# Altium schematic symbol library CD's_LIB_2018.SCHLIB: 105 symbols
Pins are listed as number, name and electrical type; pins without a type are passive.

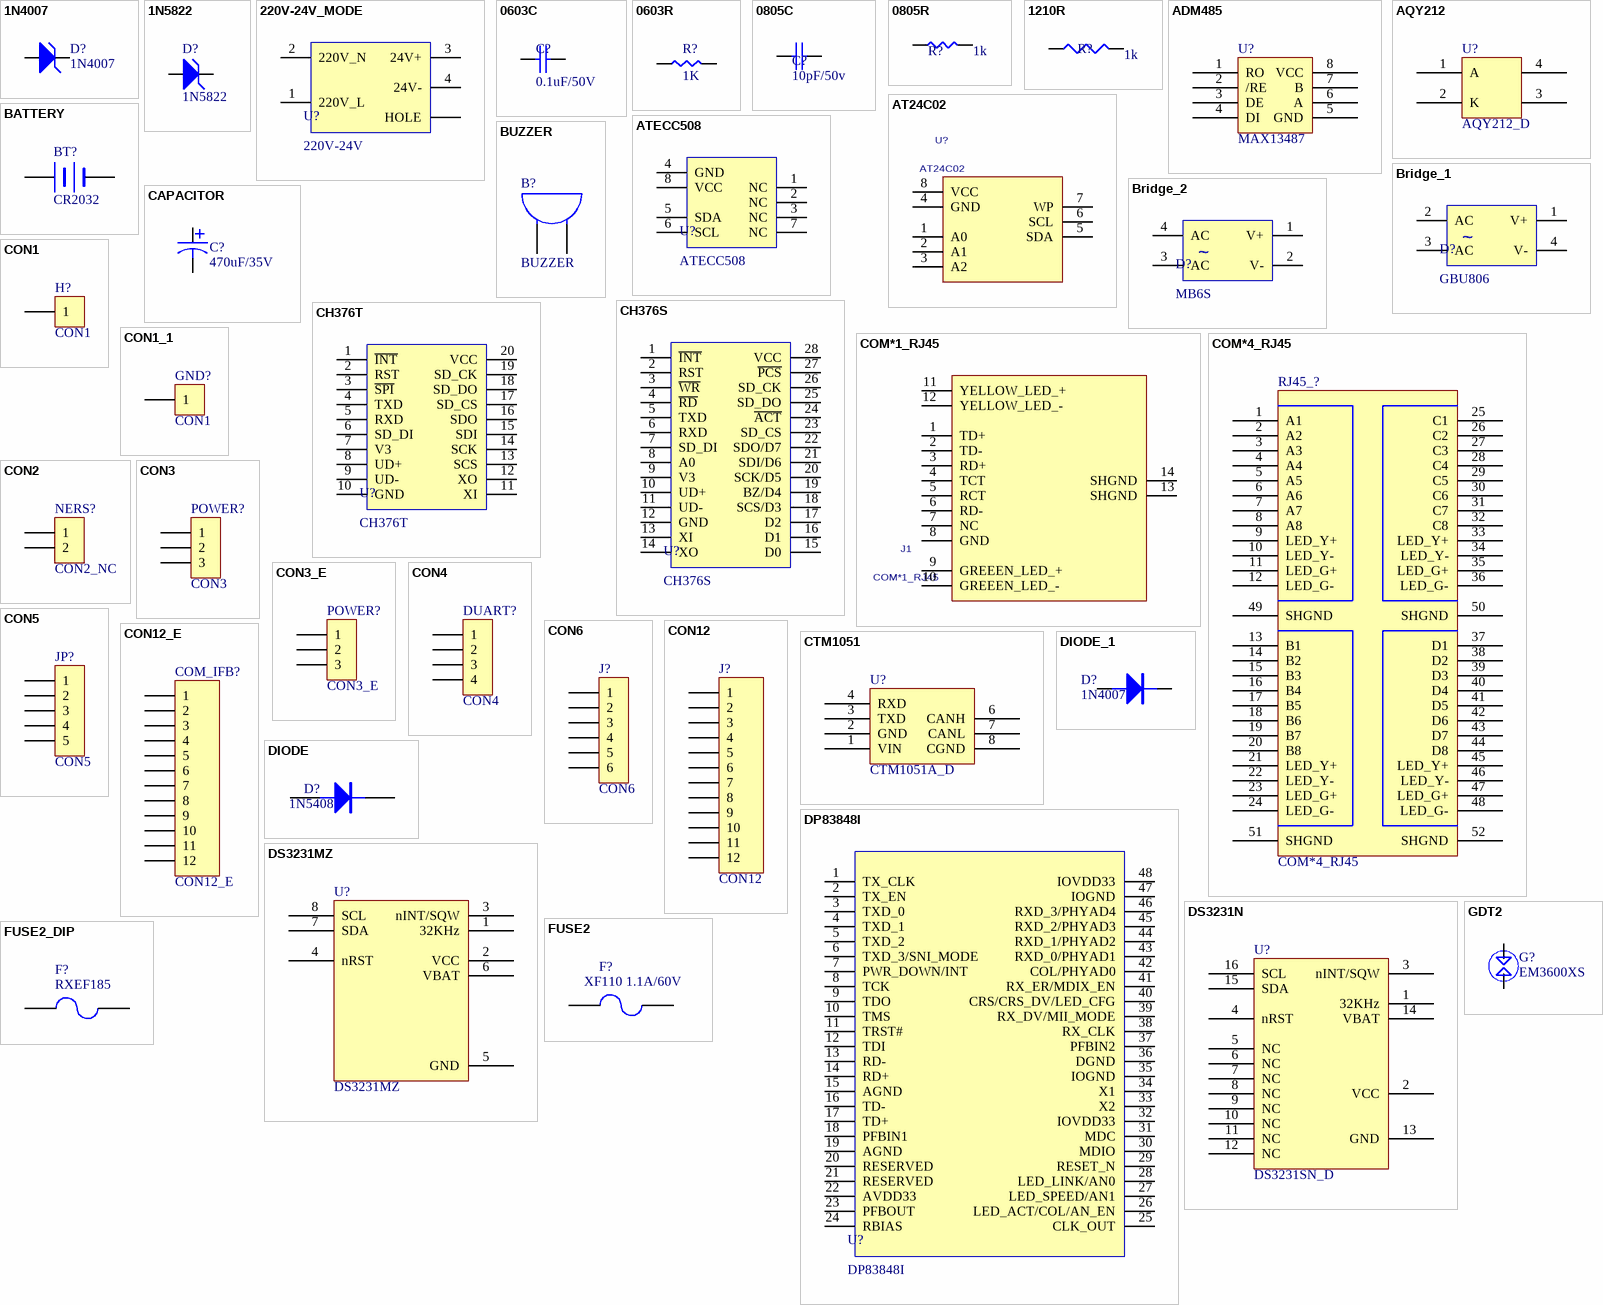
[diagram p0: symbols 1N4007 to GDT2]

## 1N4007
designator D?
Zener Diode
simulation model 1N4007 (SUBCKT)
footprint D1812
pins: 1 A, 2 K
1 alternate drawing of the same symbol

## 1N5822
designator D?
Zener Diode
simulation model 1N5822 (SUBCKT)
footprint D1812
pins: 1 A, 2 K
1 alternate drawing of the same symbol

## 220V-24V_MODE
designator U?, comment 220V-24V
220V转24V模块
footprint 220V-24V_MODE (220V转24V模块)
pins: 0 HOLE, 1 220V_L, 2 220V_N, 3 24V+, 4 24V-

## 0603C
designator C?, comment 0.1uF/50V
footprint 0603C
pins: 1, 2

## 0603R
designator R?, comment 1K
footprint 0603R
pins: 1, 2

## 0805C
designator C?, comment 10pF/50v
Capacitor 0805
footprint 0805C
pins: 1, 2

## 0805R
designator R?, comment 1k
footprint 0805R
pins: 1, 2

## 1210R
designator R?, comment 1k
footprint 1210R
pins: 1, 2

## ADM485
designator U?, comment MAX13487
footprint SO-8
pins: 1 RO, 2 /RE, 3 DE, 4 DI, 5 GND, 6 A, 7 B, 8 VCC

## AQY212
designator U?, comment AQY212_D
footprint SOP4
pins: 1 A, 2 K, 3, 4

## AT24C02
designator U?
PCB DECAL: SOP8
footprint SO-8
pins: 1 A0, 2 A1, 3 A2, 4 GND, 5 SDA, 6 SCL, 7 WP, 8 VCC

## ATECC508
designator U?
AT加密芯片
footprint SO-8
pins: 1 NC, 2 NC, 3 NC, 4 GND, 5 SDA, 6 SCL, 7 NC, 8 VCC

## BATTERY
designator BT?, comment CR2032
Battery
footprint BAT2
footprint BATERY
pins: 1 +, 2 -

## Bridge_1
designator D?, comment GBU806
整流桥-8A600V
footprint GBU8XX (整流桥)
pins: 1 V+, 2 AC, 3 AC, 4 V-
text: ~

## Bridge_2
designator D?, comment MB6S
整流桥
footprint MBXS (整流桥)
pins: 1 V+, 2 V-, 3 AC, 4 AC
text: ~

## BUZZER
designator B?
footprint Buzzer - small (小一号蜂鸣器)
footprint BUZZER
pins: 1 A, 2 B

## CAPACITOR
designator C?, comment 470uF/35V
Capacitor
footprint CAP2
pins: 1, 2

## CH376S
designator U?
USB HOST
footprint SOP-28
pins: 1 ~{INT}, 2 RST, 3 ~{WR}, 4 ~{RD}, 5 TXD, 6 RXD, 7 SD_DI, 8 A0, 9 V3, 10 UD+, 11 UD-, 12 GND, 13 XI, 14 XO, 15 D0, 16 D1, 17 D2, 18 SCS/D3, 19 BZ/D4, 20 SCK/D5, 21 SDI/D6, 22 SDO/D7, 23 SD_CS, 24 ~{ACT}, 25 SD_DO, 26 SD_CK, 27 ~{PCS}, 28 VCC

## CH376T
designator U?
USB HOST
footprint TSSOP-20
pins: 1 ~{INT}, 2 RST, 3 ~{SPI}, 4 TXD, 5 RXD, 6 SD_DI, 7 V3, 8 UD+, 9 UD-, 10 GND, 11 XI, 12 XO, 13 SCS, 14 SCK, 15 SDI, 16 SDO, 17 SD_CS, 18 SD_DO, 19 SD_CK, 20 VCC

## COM*1_RJ45
designator J1
单网口; PCB DECAL: RJ45
footprint RJ45LED
pins: 1 TD+, 2 TD-, 3 RD+, 4 TCT, 5 RCT, 6 RD-, 7 NC, 8 GND, 9 GREEEN_LED_+, 10 GREEEN_LED_-, 11 YELLOW_LED_+, 12 YELLOW_LED_-, 13 SHGND, 14 SHGND

## COM*4_RJ45
designator RJ45_?
四网口
footprint RJ45_4
pins: 1 A1, 2 A2, 3 A3, 4 A4, 5 A5, 6 A6, 7 A7, 8 A8, 9 LED_Y+, 10 LED_Y-, 11 LED_G+, 12 LED_G-, 13 B1, 14 B2, 15 B3, 16 B4, 17 B5, 18 B6, 19 B7, 20 B8, 21 LED_Y+, 22 LED_Y-, 23 LED_G+, 24 LED_G-, 25 C1, 26 C2, 27 C3, 28 C4, 29 C5, 30 C6, 31 C7, 32 C8, 33 LED_Y+, 34 LED_Y-, 35 LED_G+, 36 LED_G-, 37 D1, 38 D2, 39 D3, 40 D4, 41 D5, 42 D6, 43 D7, 44 D8, 45 LED_Y+, 46 LED_Y-, 47 LED_G+, 48 LED_G-, 49 SHGND, 50 SHGND, 51 SHGND, 52 SHGND

## CON1
designator H?
Connector
footprint HOLE-3.2 (孔径3.2mm)
footprint HOLE-3.5 (孔径3.5mm)
footprint MARK
pins: 1

## CON1_1
designator GND?, comment CON1
Connector
footprint TP
pins: 1

## CON2
designator NERS?, comment CON2_NC
Connector
footprint SIP2
pins: 1, 2

## CON3
designator POWER?
3P_5.08
footprint HEAD508_3
pins: 1, 2, 3

## CON3_E
designator POWER?
3P_5.08_带锁
footprint HEAD508_3E
pins: 1, 2, 3

## CON4
designator DUART?
Connector
footprint SIP4
pins: 1, 2, 3, 4

## CON5
designator JP?
Connector
footprint SIP5
pins: 1, 2, 3, 4, 5

## CON6
designator J?
Connector
footprint HEAD508_6
pins: 1, 2, 3, 4, 5, 6

## CON12
designator J?
12P_5.08
footprint HEAD508_12
pins: 1, 2, 3, 4, 5, 6, 7, 8, 9, 10, 11, 12

## CON12_E
designator COM_IFB?
12P_5.08_带锁
footprint HEAD508_12E
pins: 1, 2, 3, 4, 5, 6, 7, 8, 9, 10, 11, 12

## CTM1051
designator U?, comment CTM1051A_D
footprint RSM232
pins: 1 VIN, 2 GND, 3 TXD, 4 RXD, 6 CANH, 7 CANL, 8 CGND

## DIODE
designator D?, comment 1N5408
Diode
footprint D1200
pins: 1 A, 2 K

## DIODE_1
designator D?, comment 1N4007
Diode
footprint D1812
pins: 1 A, 2 K

## DP83848I
designator U?
PHY芯片/i-工业级
footprint TQFP48
pins: 1 TX_CLK, 2 TX_EN, 3 TXD_0, 4 TXD_1, 5 TXD_2, 6 TXD_3/SNI_MODE, 7 PWR_DOWN/INT, 8 TCK, 9 TDO, 10 TMS, 11 TRST#, 12 TDI, 13 RD-, 14 RD+, 15 AGND, 16 TD-, 17 TD+, 18 PFBIN1, 19 AGND, 20 RESERVED, 21 RESERVED, 22 AVDD33, 23 PFBOUT, 24 RBIAS, 25 CLK_OUT, 26 LED_ACT/COL/AN_EN, 27 LED_SPEED/AN1, 28 LED_LINK/AN0, 29 RESET_N, 30 MDIO, 31 MDC, 32 IOVDD33, 33 X2, 34 X1, 35 IOGND, 36 DGND, 37 PFBIN2, 38 RX_CLK, 39 RX_DV/MII_MODE, 40 CRS/CRS_DV/LED_CFG, 41 RX_ER/MDIX_EN, 42 COL/PHYAD0, 43 RXD_0/PHYAD1, 44 RXD_1/PHYAD2, 45 RXD_2/PHYAD3, 46 RXD_3/PHYAD4, 47 IOGND, 48 IOVDD33

## DS3231MZ
designator U?
footprint SO-8
pins: 1 32KHz, 2 VCC, 3 nINT/SQW, 4 nRST, 5 GND, 6 VBAT, 7 SDA, 8 SCL

## DS3231N
designator U?, comment DS3231SN_D
footprint SOL-16
pins: 1 32KHz, 2 VCC, 3 nINT/SQW, 4 nRST, 5 NC, 6 NC, 7 NC, 8 NC, 9 NC, 10 NC, 11 NC, 12 NC, 13 GND, 14 VBAT, 15 SDA, 16 SCL

## FUSE2
designator F?, comment XF110 1.1A/60V
Fuse
footprint FUSE1
pins: 1, 2

## FUSE2_DIP
designator F?, comment RXEF185
Fuse
footprint RAD075-100
pins: 1, 2

## GDT2
designator G?, comment EM3600XS
footprint GDT2
pins: 1, 2

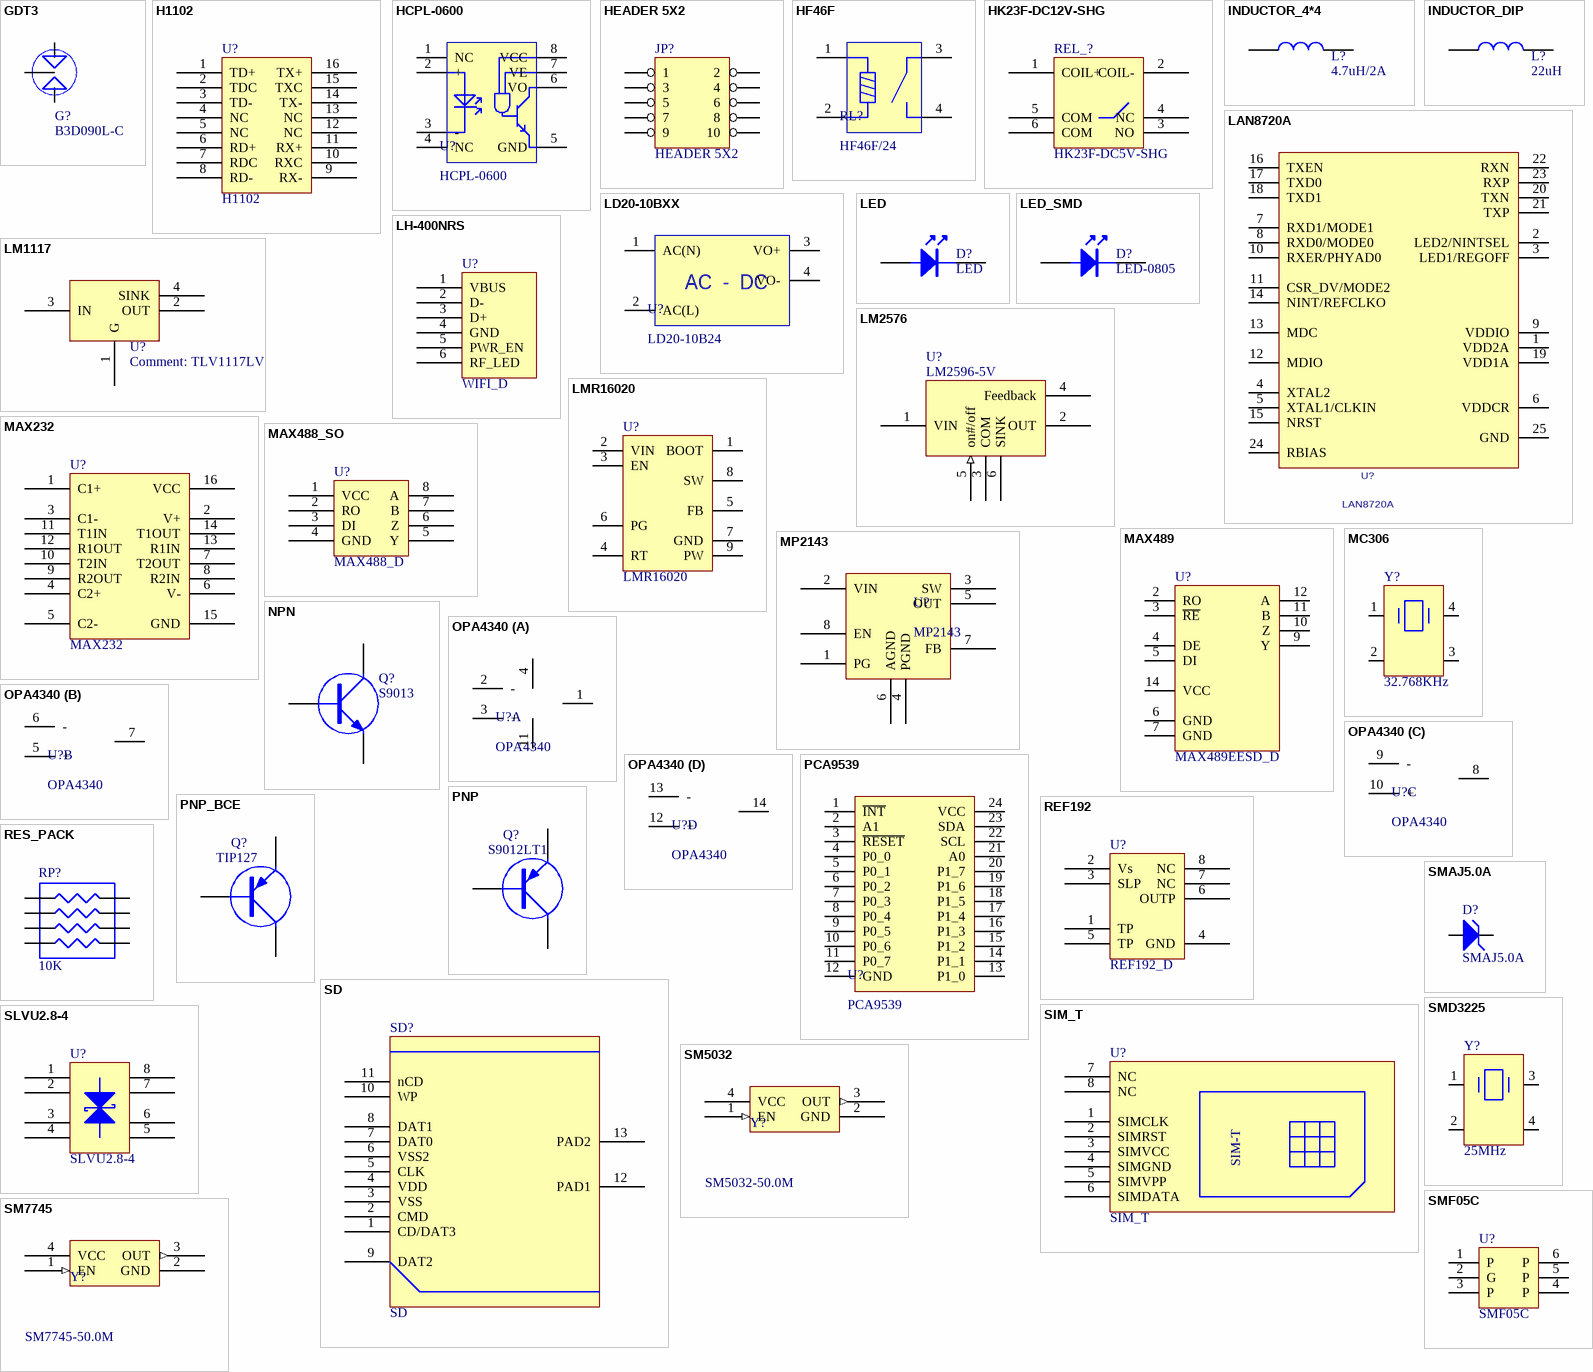
[diagram p1: symbols GDT3 to SMF05C]

## GDT3
designator G?, comment B3D090L-C
footprint GDT3
pins: 1, 2, 3

## H1102
designator U?
网络变压器
footprint H1102
pins: 1 TD+, 2 TDC, 3 TD-, 4 NC, 5 NC, 6 RD+, 7 RDC, 8 RD-, 9 RX-, 10 RXC, 11 RX+, 12 NC, 13 NC, 14 TX-, 15 TXC, 16 TX+

## HCPL-0600
designator U?
高速光耦
footprint SO-8
pins: 1 NC, 2 +, 3 -, 4 NC, 5 GND, 6 VO, 7 VE, 8 VCC

## HEADER 5X2
designator JP?
footprint IDC10_NB
pins: 1, 2, 3, 4, 5, 6, 7, 8, 9, 10

## HF46F
designator RL?, comment HF46F/24
继电器
footprint HF46F (薄继电器)
pins: 1 IN, 2 IN, 3 OUT, 4 OUT

## HK23F-DC12V-SHG
designator REL_?, comment HK23F-DC5V-SHG
footprint R_HK23F
pins: 1 COIL+, 2 COIL-, 3 NO, 4 NC, 5 COM, 6 COM

## INDUCTOR_4*4
designator L?, comment 4.7uH/2A
4*4小电感
footprint L4*4
pins: 1, 2

## INDUCTOR_DIP
designator L?, comment 22uH
直插电感
footprint L2AT
pins: 1, 2

## LAN8720A
designator U?
PCB DECAL: QFN24
footprint QFN24
pins: 1 VDD2A, 2 LED2/NINTSEL, 3 LED1/REGOFF, 4 XTAL2, 5 XTAL1/CLKIN, 6 VDDCR, 7 RXD1/MODE1, 8 RXD0/MODE0, 9 VDDIO, 10 RXER/PHYAD0, 11 CSR_DV/MODE2, 12 MDIO, 13 MDC, 14 NINT/REFCLKO, 15 NRST, 16 TXEN, 17 TXD0, 18 TXD1, 19 VDD1A, 20 TXN, 21 TXP, 22 RXN, 23 RXP, 24 RBIAS, 25 GND

## LD20-10BXX
designator U?, comment LD20-10B24
AC-DC模块
footprint LD20-10BXX (AC-DC模块)
pins: 1 AC(N), 2 AC(L), 3 VO+, 4 VO-
text: AC  -  DC

## LED
designator D?
footprint LED
pins: A 1, K 2

## LED_SMD
designator D?, comment LED-0805
贴片LED
footprint 0805LED
footprint 0603LED (贴片LED)
pins: 1 -, 2 +

## LH-400NRS
designator U?, comment WIFI_D
footprint MODWIFI
pins: 1 VBUS, 2 D-, 3 D+, 4 GND, 5 PWR_EN, 6 RF_LED

## LM1117
designator U?, comment TLV1117LV33DCYR
footprint SOT-233
pins: 1 G, 2 OUT, 3 IN, 4 SINK

## LM2576
designator U?, comment LM2596-5V
footprint TO220-5
pins: 1 VIN (power), 2 OUT, 3 COM, 4 Feedback, 5 on#/off (in), 6 SINK

## LMR16020
designator U?
footprint SO-G8
pins: 1 BOOT, 2 VIN, 3 EN, 4 RT, 5 FB, 6 PG, 7 GND, 8 SW, 9 PW

## MAX232
designator U?
footprint SO-16
pins: 1 C1+, 2 V+, 3 C1-, 4 C2+, 5 C2-, 6 V-, 7 T2OUT, 8 R2IN, 9 R2OUT, 10 T2IN, 11 T1IN, 12 R1OUT, 13 R1IN, 14 T1OUT, 15 GND, 16 VCC

## MAX488_SO
designator U?, comment MAX488_D
footprint SO-8
pins: 1 VCC, 2 RO, 3 DI, 4 GND, 5 Y, 6 Z, 7 B, 8 A

## MAX489
designator U?, comment MAX489EESD_D
footprint SO-14
pins: 2 RO, 3 ~{RE}, 4 DE, 5 DI, 6 GND, 7 GND, 9 Y, 10 Z, 11 B, 12 A, 14 VCC

## MC306
designator Y?, comment 32.768KHz
footprint MC306
pins: 1, 2, 3, 4

## MP2143
designator U?
小电压电源芯片
footprint MP2143 (TSOT23-8)
pins: 1 PG, 2 VIN, 3 SW, 4 PGND, 5 OUT, 6 AGND, 7 FB, 8 EN

## NPN
designator Q?, comment S9013
NPN Transistor
footprint TO-92A
pins: B, C, E

## OPA4340
designator U?
4运放
footprint SO-14
part A pins: 1 OUT_A, 2 -, 3 +, 4 VCC, 11 GND
part B pins: 5 +, 6 -, 7 OUT_B
part C pins: 8 OUT_C, 9 -, 10 +
part D pins: 12 +, 13 -, 14 OUT_D

## PCA9539
designator U?
扩展芯片
footprint TSSOP-16L
pins: 1 ~{INT}, 2 A1, 3 ~{RESET}, 4 P0_0, 5 P0_1, 6 P0_2, 7 P0_3, 8 P0_4, 9 P0_5, 10 P0_6, 11 P0_7, 12 GND, 13 P1_0, 14 P1_1, 15 P1_2, 16 P1_3, 17 P1_4, 18 P1_5, 19 P1_6, 20 P1_7, 21 A0, 22 SCL, 23 SDA, 24 VCC

## PNP
designator Q?, comment S9012LT1
PNP Transistor
footprint SOT-23
pins: 1 B, 2 E, 3 C

## PNP_BCE
designator Q?, comment TIP127
PNP Transistor
footprint TO-263-2
pins: 1 B, 2 C, 3 E

## REF192
designator U?, comment REF192_D
footprint SO-8
pins: 1 TP, 2 Vs, 3 SLP, 4 GND, 5 TP, 6 OUTP, 7 NC, 8 NC

## RES_PACK
designator RP?, comment 10K
footprint RES3
pins: 1, 2, 3, 4, 5, 6, 7, 8

## SD
designator SD?
footprint SDCARD
pins: 1 CD/DAT3, 2 CMD, 3 VSS, 4 VDD, 5 CLK, 6 VSS2, 7 DAT0, 8 DAT1, 9 DAT2, 10 WP, 11 nCD, 12 PAD1, 13 PAD2

## SIM_T
designator U?
footprint SIM
pins: 1 SIMCLK, 2 SIMRST, 3 SIMVCC, 4 SIMGND, 5 SIMVPP, 6 SIMDATA, 7 NC, 8 NC
text: SIM-T

## SLVU2.8-4
designator U?
footprint SO-8
pins: 1, 2, 3, 4, 5, 6, 7, 8

## SM5032
designator Y?, comment SM5032-50.0M
有源晶振
footprint XTAL_5032
pins: 1 EN (in), 2 GND, 3 OUT (out), 4 VCC

## SM7745
designator Y?, comment SM7745-50.0M
有源晶振
footprint XTAL_5X7
pins: 1 EN (in), 2 GND, 3 OUT (out), 4 VCC

## SMAJ5.0A
designator D?
Zener Diode
simulation model SMAJ5.0A (SUBCKT)
footprint D1812
pins: 1 A, 2 K
1 alternate drawing of the same symbol

## SMD3225
designator Y?, comment 25MHz
footprint X_TXCWY
pins: 1, 2, 3, 4

## SMF05C
designator U?
footprint SC70-6L
footprint SOT-363
pins: 1 P, 2 G, 3 P, 4 P, 5 P, 6 P

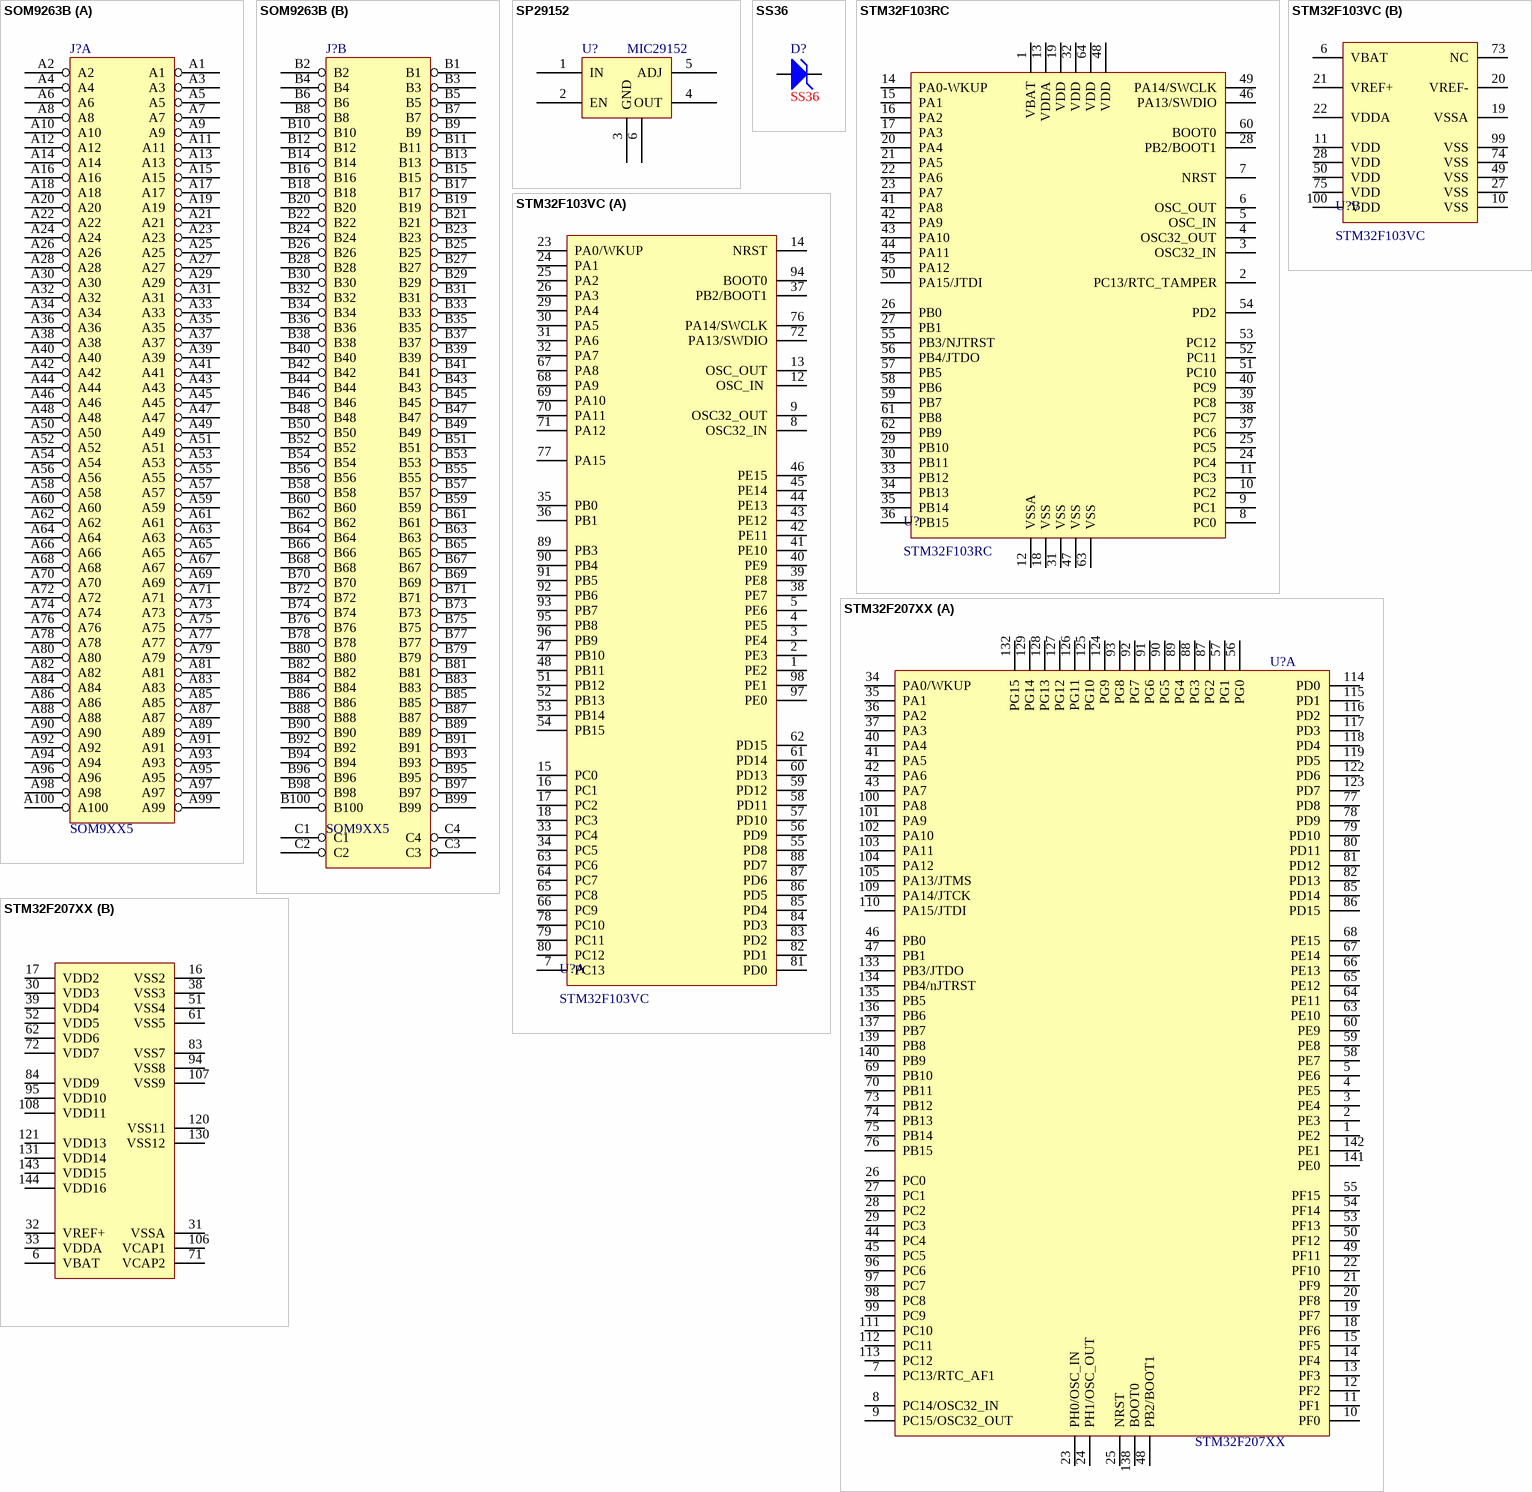
[diagram p2: symbols SOM9263B to STM32F207XX]

## SOM9263B
designator J?, comment SOM9XX5
footprint SOM9XX5
part A pins: A1, A2, A3, A4, A5, A6, A7, A8, A9, A10, A11, A12, A13, A14, A15, A16, A17, A18, A19, A20, A21, A22, A23, A24, A25, A26, A27, A28, A29, A30, A31, A32, A33, A34, A35, A36, A37, A38, A39, A40, A41, A42, A43, A44, A45, A46, A47, A48, A49, A50, A51, A52, A53, A54, A55, A56, A57, A58, A59, A60, A61, A62, A63, A64, A65, A66, A67, A68, A69, A70, A71, A72, A73, A74, A75, A76, A77, A78, A79, A80, A81, A82, A83, A84, A85, A86, A87, A88, A89, A90, A91, A92, A93, A94, A95, A96, A97, A98, A99, A100
part B pins: B1, B2, B3, B4, B5, B6, B7, B8, B9, B10, B11, B12, B13, B14, B15, B16, B17, B18, B19, B20, B21, B22, B23, B24, B25, B26, B27, B28, B29, B30, B31, B32, B33, B34, B35, B36, B37, B38, B39, B40, B41, B42, B43, B44, B45, B46, B47, B48, B49, B50, B51, B52, B53, B54, B55, B56, B57, B58, B59, B60, B61, B62, B63, B64, B65, B66, B67, B68, B69, B70, B71, B72, B73, B74, B75, B76, B77, B78, B79, B80, B81, B82, B83, B84, B85, B86, B87, B88, B89, B90, B91, B92, B93, B94, B95, B96, B97, B98, B99, B100, C1, C2, C3, C4

## SP29152
designator U?, comment MIC29152
footprint TO220-5
pins: 1 IN, 2 EN, 3 GND, 4 OUT, 5 ADJ, 6

## SS36
designator D?
Zener Diode
simulation model SS36 (SUBCKT)
footprint D1812
pins: 1 A, 2 K
1 alternate drawing of the same symbol

## STM32F103RC
designator U?
LQFP64
footprint LQFP-64
pins: 1 VBAT, 2 PC13/RTC_TAMPER, 3 OSC32_IN, 4 OSC32_OUT, 5 OSC_IN, 6 OSC_OUT, 7 NRST, 8 PC0, 9 PC1, 10 PC2, 11 PC3, 12 VSSA, 13 VDDA, 14 PA0-WKUP, 15 PA1, 16 PA2, 17 PA3, 18 VSS, 19 VDD, 20 PA4, 21 PA5, 22 PA6, 23 PA7, 24 PC4, 25 PC5, 26 PB0, 27 PB1, 28 PB2/BOOT1, 29 PB10, 30 PB11, 31 VSS, 32 VDD, 33 PB12, 34 PB13, 35 PB14, 36 PB15, 37 PC6, 38 PC7, 39 PC8, 40 PC9, 41 PA8, 42 PA9, 43 PA10, 44 PA11, 45 PA12, 46 PA13/SWDIO, 47 VSS, 48 VDD, 49 PA14/SWCLK, 50 PA15/JTDI, 51 PC10, 52 PC11, 53 PC12, 54 PD2, 55 PB3/NJTRST, 56 PB4/JTDO, 57 PB5, 58 PB6, 59 PB7, 60 BOOT0, 61 PB8, 62 PB9, 63 VSS, 64 VDD

## STM32F103VC
designator U?
LQFP100
footprint TQFP100
part A pins: 1 PE2, 2 PE3, 3 PE4, 4 PE5, 5 PE6, 7 PC13, 8 OSC32_IN, 9 OSC32_OUT, 12 OSC_IN , 13 OSC_OUT, 14 NRST, 15 PC0, 16 PC1, 17 PC2, 18 PC3, 23 PA0/WKUP, 24 PA1, 25 PA2, 26 PA3, 29 PA4, 30 PA5, 31 PA6, 32 PA7, 33 PC4, 34 PC5, 35 PB0, 36 PB1, 37 PB2/BOOT1, 38 PE7, 39 PE8, 40 PE9, 41 PE10, 42 PE11, 43 PE12, 44 PE13, 45 PE14, 46 PE15, 47 PB10, 48 PB11, 51 PB12, 52 PB13, 53 PB14, 54 PB15, 55 PD8, 56 PD9, 57 PD10, 58 PD11, 59 PD12, 60 PD13, 61 PD14, 62 PD15, 63 PC6, 64 PC7, 65 PC8, 66 PC9, 67 PA8, 68 PA9, 69 PA10, 70 PA11, 71 PA12, 72 PA13/SWDIO, 76 PA14/SWCLK, 77 PA15, 78 PC10, 79 PC11, 80 PC12, 81 PD0, 82 PD1, 83 PD2, 84 PD3, 85 PD4, 86 PD5, 87 PD6, 88 PD7, 89 PB3, 90 PB4, 91 PB5, 92 PB6, 93 PB7, 94 BOOT0, 95 PB8, 96 PB9, 97 PE0, 98 PE1
part B pins: 6 VBAT, 10 VSS, 11 VDD, 19 VSSA, 20 VREF-, 21 VREF+, 22 VDDA, 27 VSS, 28 VDD, 49 VSS, 50 VDD, 73 NC, 74 VSS, 75 VDD, 99 VSS, 100 VDD

## STM32F207XX
designator U?
LQFP144
footprint TQFP144
part A pins: 1 PE2, 2 PE3, 3 PE4, 4 PE5, 5 PE6, 7 PC13/RTC_AF1, 8 PC14/OSC32_IN, 9 PC15/OSC32_OUT, 10 PF0, 11 PF1, 12 PF2, 13 PF3, 14 PF4, 15 PF5, 18 PF6, 19 PF7, 20 PF8, 21 PF9, 22 PF10, 23 PH0/OSC_IN, 24 PH1/OSC_OUT, 25 NRST, 26 PC0, 27 PC1, 28 PC2, 29 PC3, 34 PA0/WKUP, 35 PA1, 36 PA2, 37 PA3, 40 PA4, 41 PA5, 42 PA6, 43 PA7, 44 PC4, 45 PC5, 46 PB0, 47 PB1, 48 PB2/BOOT1, 49 PF11, 50 PF12, 53 PF13, 54 PF14, 55 PF15, 56 PG0, 57 PG1, 58 PE7, 59 PE8, 60 PE9, 63 PE10, 64 PE11, 65 PE12, 66 PE13, 67 PE14, 68 PE15, 69 PB10, 70 PB11, 73 PB12, 74 PB13, 75 PB14, 76 PB15, 77 PD8, 78 PD9, 79 PD10, 80 PD11, 81 PD12, 82 PD13, 85 PD14, 86 PD15, 87 PG2, 88 PG3, 89 PG4, 90 PG5, 91 PG6, 92 PG7, 93 PG8, 96 PC6, 97 PC7, 98 PC8, 99 PC9, 100 PA8, 101 PA9, 102 PA10, 103 PA11, 104 PA12, 105 PA13/JTMS, 109 PA14/JTCK, 110 PA15/JTDI, 111 PC10, 112 PC11, 113 PC12, 114 PD0, 115 PD1, 116 PD2, 117 PD3, 118 PD4, 119 PD5, 122 PD6, 123 PD7, 124 PG9, 125 PG10, 126 PG11, 127 PG12, 128 PG13, 129 PG14, 132 PG15, 133 PB3/JTDO, 134 PB4/nJTRST, 135 PB5, 136 PB6, 137 PB7, 138 BOOT0, 139 PB8, 140 PB9, 141 PE0, 142 PE1
part B pins: 6 VBAT, 16 VSS2, 17 VDD2, 30 VDD3, 31 VSSA, 32 VREF+, 33 VDDA, 38 VSS3, 39 VDD4, 51 VSS4, 52 VDD5, 61 VSS5, 62 VDD6, 71 VCAP2, 72 VDD7, 83 VSS7, 84 VDD9, 94 VSS8, 95 VDD10, 106 VCAP1, 107 VSS9, 108 VDD11, 120 VSS11, 121 VDD13, 130 VSS12, 131 VDD14, 143 VDD15, 144 VDD16

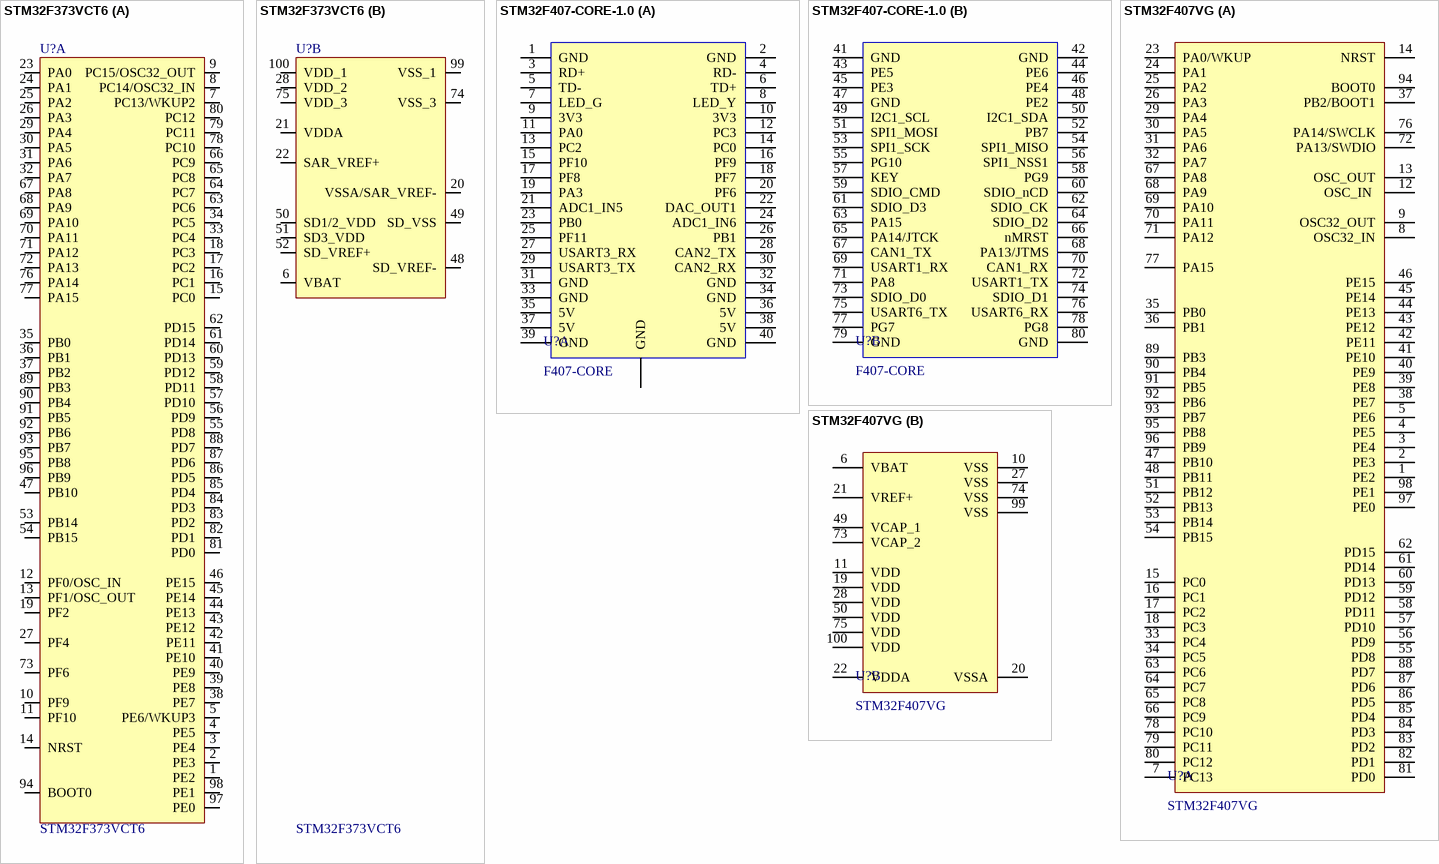
[diagram p3: symbols STM32F373VCT6 to STM32F407VG]

## STM32F373VCT6
designator U?
LQFP100
footprint LQFP100
footprint TQ100_TOOL
footprint IC149-100-025-B5
footprint TQFP100
part A pins: 1 PE2, 2 PE3, 3 PE4, 4 PE5, 5 PE6/WKUP3, 7 PC13/WKUP2, 8 PC14/OSC32_IN, 9 PC15/OSC32_OUT, 10 PF9, 11 PF10, 12 PF0/OSC_IN, 13 PF1/OSC_OUT, 14 NRST, 15 PC0, 16 PC1, 17 PC2, 18 PC3, 19 PF2, 23 PA0, 24 PA1, 25 PA2, 26 PA3, 27 PF4, 29 PA4, 30 PA5, 31 PA6, 32 PA7, 33 PC4, 34 PC5, 35 PB0, 36 PB1, 37 PB2, 38 PE7, 39 PE8, 40 PE9, 41 PE10, 42 PE11, 43 PE12, 44 PE13, 45 PE14, 46 PE15, 47 PB10, 53 PB14, 54 PB15, 55 PD8, 56 PD9, 57 PD10, 58 PD11, 59 PD12, 60 PD13, 61 PD14, 62 PD15, 63 PC6, 64 PC7, 65 PC8, 66 PC9, 67 PA8, 68 PA9, 69 PA10, 70 PA11, 71 PA12, 72 PA13, 73 PF6, 76 PA14, 77 PA15, 78 PC10, 79 PC11, 80 PC12, 81 PD0, 82 PD1, 83 PD2, 84 PD3, 85 PD4, 86 PD5, 87 PD6, 88 PD7, 89 PB3, 90 PB4, 91 PB5, 92 PB6, 93 PB7, 94 BOOT0, 95 PB8, 96 PB9, 97 PE0, 98 PE1
part B pins: 6 VBAT, 20 VSSA/SAR_VREF-, 21 VDDA, 22 SAR_VREF+, 28 VDD_2, 48 SD_VREF-, 49 SD_VSS, 50 SD1/2_VDD, 51 SD3_VDD, 52 SD_VREF+, 74 VSS_3, 75 VDD_3, 99 VSS_1, 100 VDD_1
2 alternate drawings of the same symbol

## STM32F407-CORE-1.0
designator U?, comment F407-CORE
F407核心板1.0
footprint STM32F407-CORE-V1.0 (F407核心板-V1.0)
part A pins: 0 GND, 1 GND, 2 GND, 3 RD+, 4 RD-, 5 TD-, 6 TD+, 7 LED_G, 8 LED_Y, 9 3V3, 10 3V3, 11 PA0, 12 PC3, 13 PC2, 14 PC0, 15 PF10, 16 PF9, 17 PF8, 18 PF7, 19 PA3, 20 PF6, 21 ADC1_IN5, 22 DAC_OUT1, 23 PB0, 24 ADC1_IN6, 25 PF11, 26 PB1, 27 USART3_RX, 28 CAN2_TX, 29 USART3_TX, 30 CAN2_RX, 31 GND, 32 GND, 33 GND, 34 GND, 35 5V, 36 5V, 37 5V, 38 5V, 39 GND, 40 GND
part B pins: 41 GND, 42 GND, 43 PE5, 44 PE6, 45 PE3, 46 PE4, 47 GND, 48 PE2, 49 I2C1_SCL, 50 I2C1_SDA, 51 SPI1_MOSI, 52 PB7, 53 SPI1_SCK, 54 SPI1_MISO, 55 PG10, 56 SPI1_NSS1, 57 KEY, 58 PG9, 59 SDIO_CMD, 60 SDIO_nCD, 61 SDIO_D3, 62 SDIO_CK, 63 PA15, 64 SDIO_D2, 65 PA14/JTCK, 66 nMRST, 67 CAN1_TX, 68 PA13/JTMS, 69 USART1_RX, 70 CAN1_RX, 71 PA8, 72 USART1_TX, 73 SDIO_D0, 74 SDIO_D1, 75 USART6_TX, 76 USART6_RX, 77 PG7, 78 PG8, 79 GND, 80 GND

## STM32F407VG
designator U?
LQFP100
footprint TQFP100
part A pins: 1 PE2, 2 PE3, 3 PE4, 4 PE5, 5 PE6, 7 PC13, 8 OSC32_IN, 9 OSC32_OUT, 12 OSC_IN , 13 OSC_OUT, 14 NRST, 15 PC0, 16 PC1, 17 PC2, 18 PC3, 23 PA0/WKUP, 24 PA1, 25 PA2, 26 PA3, 29 PA4, 30 PA5, 31 PA6, 32 PA7, 33 PC4, 34 PC5, 35 PB0, 36 PB1, 37 PB2/BOOT1, 38 PE7, 39 PE8, 40 PE9, 41 PE10, 42 PE11, 43 PE12, 44 PE13, 45 PE14, 46 PE15, 47 PB10, 48 PB11, 51 PB12, 52 PB13, 53 PB14, 54 PB15, 55 PD8, 56 PD9, 57 PD10, 58 PD11, 59 PD12, 60 PD13, 61 PD14, 62 PD15, 63 PC6, 64 PC7, 65 PC8, 66 PC9, 67 PA8, 68 PA9, 69 PA10, 70 PA11, 71 PA12, 72 PA13/SWDIO, 76 PA14/SWCLK, 77 PA15, 78 PC10, 79 PC11, 80 PC12, 81 PD0, 82 PD1, 83 PD2, 84 PD3, 85 PD4, 86 PD5, 87 PD6, 88 PD7, 89 PB3, 90 PB4, 91 PB5, 92 PB6, 93 PB7, 94 BOOT0, 95 PB8, 96 PB9, 97 PE0, 98 PE1
part B pins: 6 VBAT, 10 VSS, 11 VDD, 19 VDD, 20 VSSA, 21 VREF+, 22 VDDA, 27 VSS, 28 VDD, 49 VCAP_1, 50 VDD, 73 VCAP_2, 74 VSS, 75 VDD, 99 VSS, 100 VDD

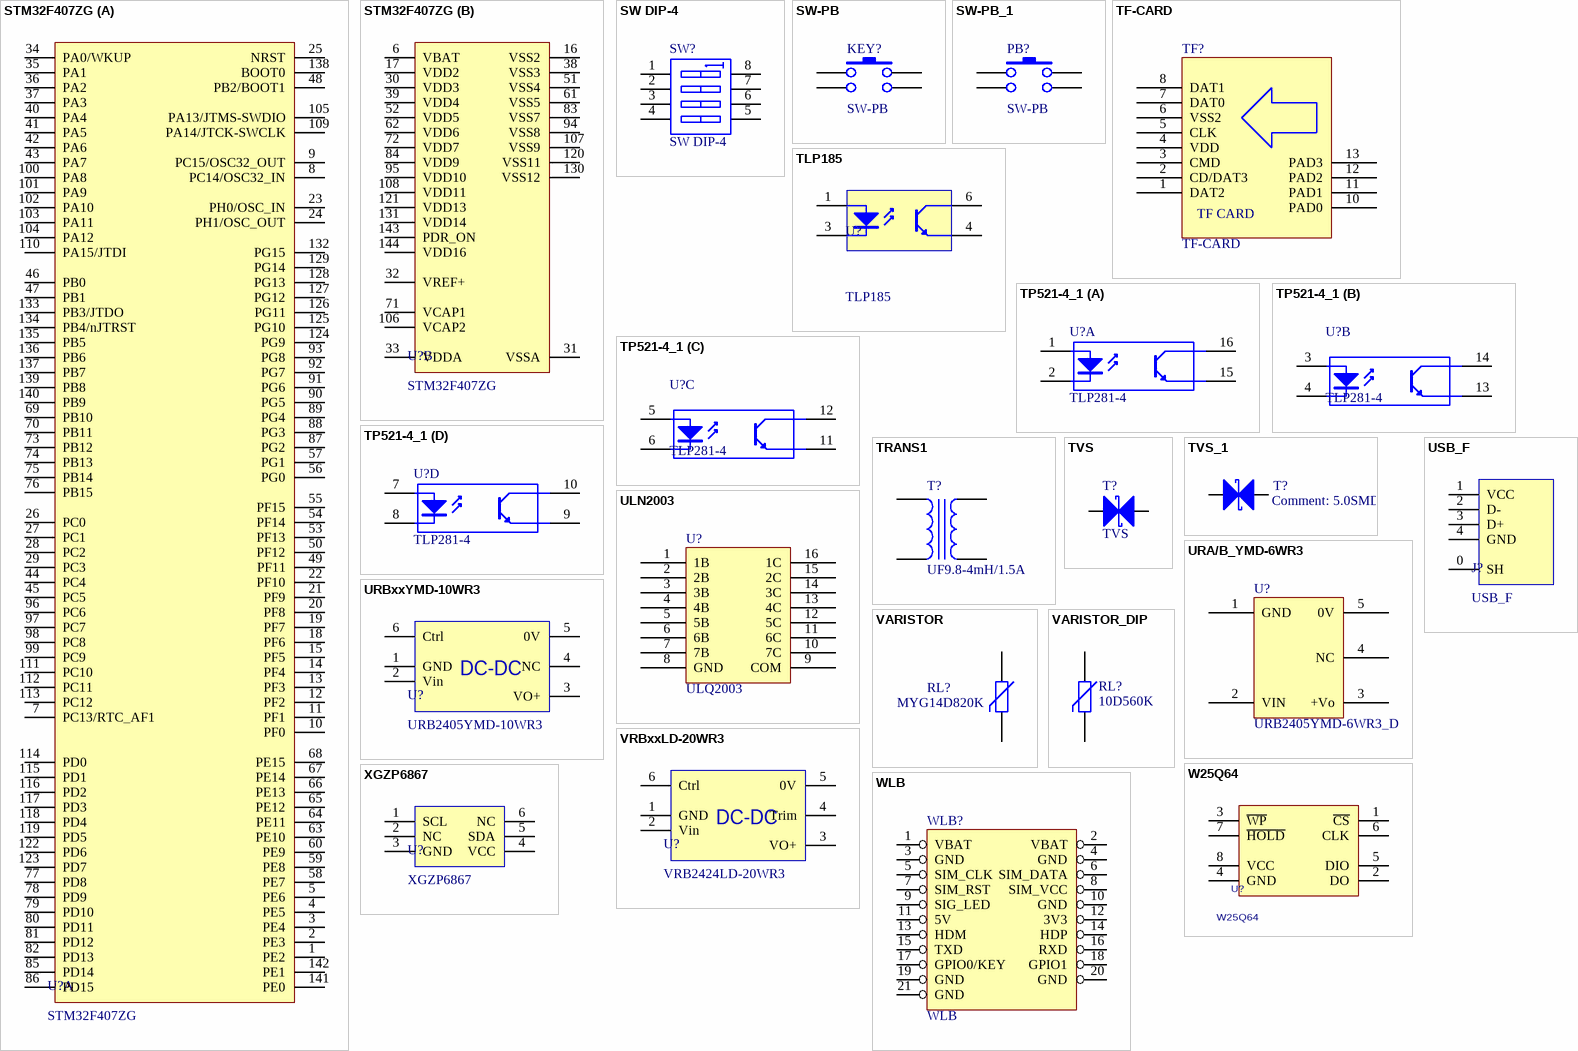
[diagram p4: symbols STM32F407ZG to XGZP6867]

## STM32F407ZG
designator U?
LQFP144
footprint TQFP144
part A pins: 1 PE2, 2 PE3, 3 PE4, 4 PE5, 5 PE6, 7 PC13/RTC_AF1, 8 PC14/OSC32_IN, 9 PC15/OSC32_OUT, 10 PF0, 11 PF1, 12 PF2, 13 PF3, 14 PF4, 15 PF5, 18 PF6, 19 PF7, 20 PF8, 21 PF9, 22 PF10, 23 PH0/OSC_IN, 24 PH1/OSC_OUT, 25 NRST, 26 PC0, 27 PC1, 28 PC2, 29 PC3, 34 PA0/WKUP, 35 PA1, 36 PA2, 37 PA3, 40 PA4, 41 PA5, 42 PA6, 43 PA7, 44 PC4, 45 PC5, 46 PB0, 47 PB1, 48 PB2/BOOT1, 49 PF11, 50 PF12, 53 PF13, 54 PF14, 55 PF15, 56 PG0, 57 PG1, 58 PE7, 59 PE8, 60 PE9, 63 PE10, 64 PE11, 65 PE12, 66 PE13, 67 PE14, 68 PE15, 69 PB10, 70 PB11, 73 PB12, 74 PB13, 75 PB14, 76 PB15, 77 PD8, 78 PD9, 79 PD10, 80 PD11, 81 PD12, 82 PD13, 85 PD14, 86 PD15, 87 PG2, 88 PG3, 89 PG4, 90 PG5, 91 PG6, 92 PG7, 93 PG8, 96 PC6, 97 PC7, 98 PC8, 99 PC9, 100 PA8, 101 PA9, 102 PA10, 103 PA11, 104 PA12, 105 PA13/JTMS-SWDIO, 109 PA14/JTCK-SWCLK, 110 PA15/JTDI, 111 PC10, 112 PC11, 113 PC12, 114 PD0, 115 PD1, 116 PD2, 117 PD3, 118 PD4, 119 PD5, 122 PD6, 123 PD7, 124 PG9, 125 PG10, 126 PG11, 127 PG12, 128 PG13, 129 PG14, 132 PG15, 133 PB3/JTDO, 134 PB4/nJTRST, 135 PB5, 136 PB6, 137 PB7, 138 BOOT0, 139 PB8, 140 PB9, 141 PE0, 142 PE1
part B pins: 6 VBAT, 16 VSS2, 17 VDD2, 30 VDD3, 31 VSSA, 32 VREF+, 33 VDDA, 38 VSS3, 39 VDD4, 51 VSS4, 52 VDD5, 61 VSS5, 62 VDD6, 71 VCAP1, 72 VDD7, 83 VSS7, 84 VDD9, 94 VSS8, 95 VDD10, 106 VCAP2, 107 VSS9, 108 VDD11, 120 VSS11, 121 VDD13, 130 VSS12, 131 VDD14, 143 PDR_ON, 144 VDD16

## SW DIP-4
designator SW?
DIP Switch
footprint DIP8
pins: 1 A1, 2 A2, 3 A3, 4 A4, 5 B4, 6 B3, 7 B2, 8 B1

## SW-PB
designator KEY?
footprint KEY2-SMD (贴片按键 5*5)
footprint KEY3-DIP (按键 6*6)
pins: 1, 2, 3, 4

## SW-PB_1
designator PB?, comment SW-PB
footprint RESET1
footprint KEY1
pins: 1, 2, 3, 4

## TF-CARD
designator TF?
footprint TFCARD
pins: 1 DAT2, 2 CD/DAT3, 3 CMD, 4 VDD, 5 CLK, 6 VSS2, 7 DAT0, 8 DAT1, 10 PAD0, 11 PAD1, 12 PAD2, 13 PAD3
text: TF CARD

## TLP185
designator U?
footprint SO-6-4
pins: 1 A, 3 K, 4 E, 6 C

## TP521-4_1
designator U?, comment TLP281-4
footprint DIP-16
footprint SO-16
part A pins: 1 A, 2 K, 15 E, 16 C
part B pins: 3 A, 4 K, 13 E, 14 C
part C pins: 5 A, 6 K, 11 E, 12 C
part D pins: 7 A, 8 K, 9 E, 10 C

## TRANS1
designator T?, comment UF9.8-4mH/1.5A
footprint TR_UF9-8
pins: 1, 2, 3, 4

## TVS
designator T?
footprint TVS
pins: 1 A, 2 K

## TVS_1
designator T?, comment 5.0SMDJ30CA
footprint SMCJ
pins: 1 A, 2 K

## ULN2003
designator U?, comment ULQ2003
footprint SO-16
pins: 1 1B, 2 2B, 3 3B, 4 4B, 5 5B, 6 6B, 7 7B, 8 GND, 9 COM, 10 7C, 11 6C, 12 5C, 13 4C, 14 3C, 15 2C, 16 1C

## URA/B_YMD-6WR3
designator U?, comment URB2405YMD-6WR3_D
footprint URB
pins: 1 GND, 2 VIN, 3 +Vo, 4 NC, 5 0V

## URBxxYMD-10WR3
designator U?, comment URB2405YMD-10WR3
隔离DC-DC模块
footprint URBxxYMD-10WR3 (隔离DCDC模块)
pins: 1 GND, 2 Vin, 3 VO+, 4 NC, 5 0V, 6 Ctrl
text: DC-DC

## USB_F
designator J?
USB母座
footprint USB_180° (直立USB)
pins: 0 SH, 1 VCC, 2 D-, 3 D+, 4 GND

## VARISTOR
designator RL?, comment MYG14D820K
footprint FUSE2
pins: 1, 2

## VARISTOR_DIP
designator RL?, comment 10D560K
footprint RAD075-100
pins: 1, 2

## VRBxxLD-20WR3
designator U?, comment VRB2424LD-20WR3
隔离DC-DC模块
footprint VRBxxLD-20WR3 (隔离DCDC模块)
pins: 1 GND, 2 Vin, 3 VO+, 4 Trim, 5 0V, 6 Ctrl
text: DC-DC

## W25Q64
designator U?
PCB DECAL: W25X16
footprint W25X16
pins: 1 ~{CS}, 2 DO, 3 ~{WP}, 4 GND, 5 DIO, 6 CLK, 7 ~{HOLD}, 8 VCC

## WLB
designator WLB?
footprint WLB
pins: 1 VBAT, 2 VBAT, 3 GND, 4 GND, 5 SIM_CLK, 6 SIM_DATA, 7 SIM_RST, 8 SIM_VCC, 9 SIG_LED, 10 GND, 11 5V, 12 3V3, 13 HDM, 14 HDP, 15 TXD, 16 RXD, 17 GPIO0/KEY, 18 GPIO1, 19 GND, 20 GND, 21 GND

## XGZP6867
designator U?
数字压力传感器
footprint XGZP6867 (压力传感器)
pins: 1 SCL, 2 NC, 3 GND, 4 VCC, 5 SDA, 6 NC